# Altium footprint library shared_lib.PcbLib: 46 footprints (part 1 of 3)
Each footprint in its own frame and in the unit in brackets; x right, y up, seen from the top. Pads: shape width x height; smd on the part's side, far side on the other; paste and mask are expansions set on the pad; w line width, h text height; cw(c..) or ccw(c..) is an arc to the next point about the centre after c.
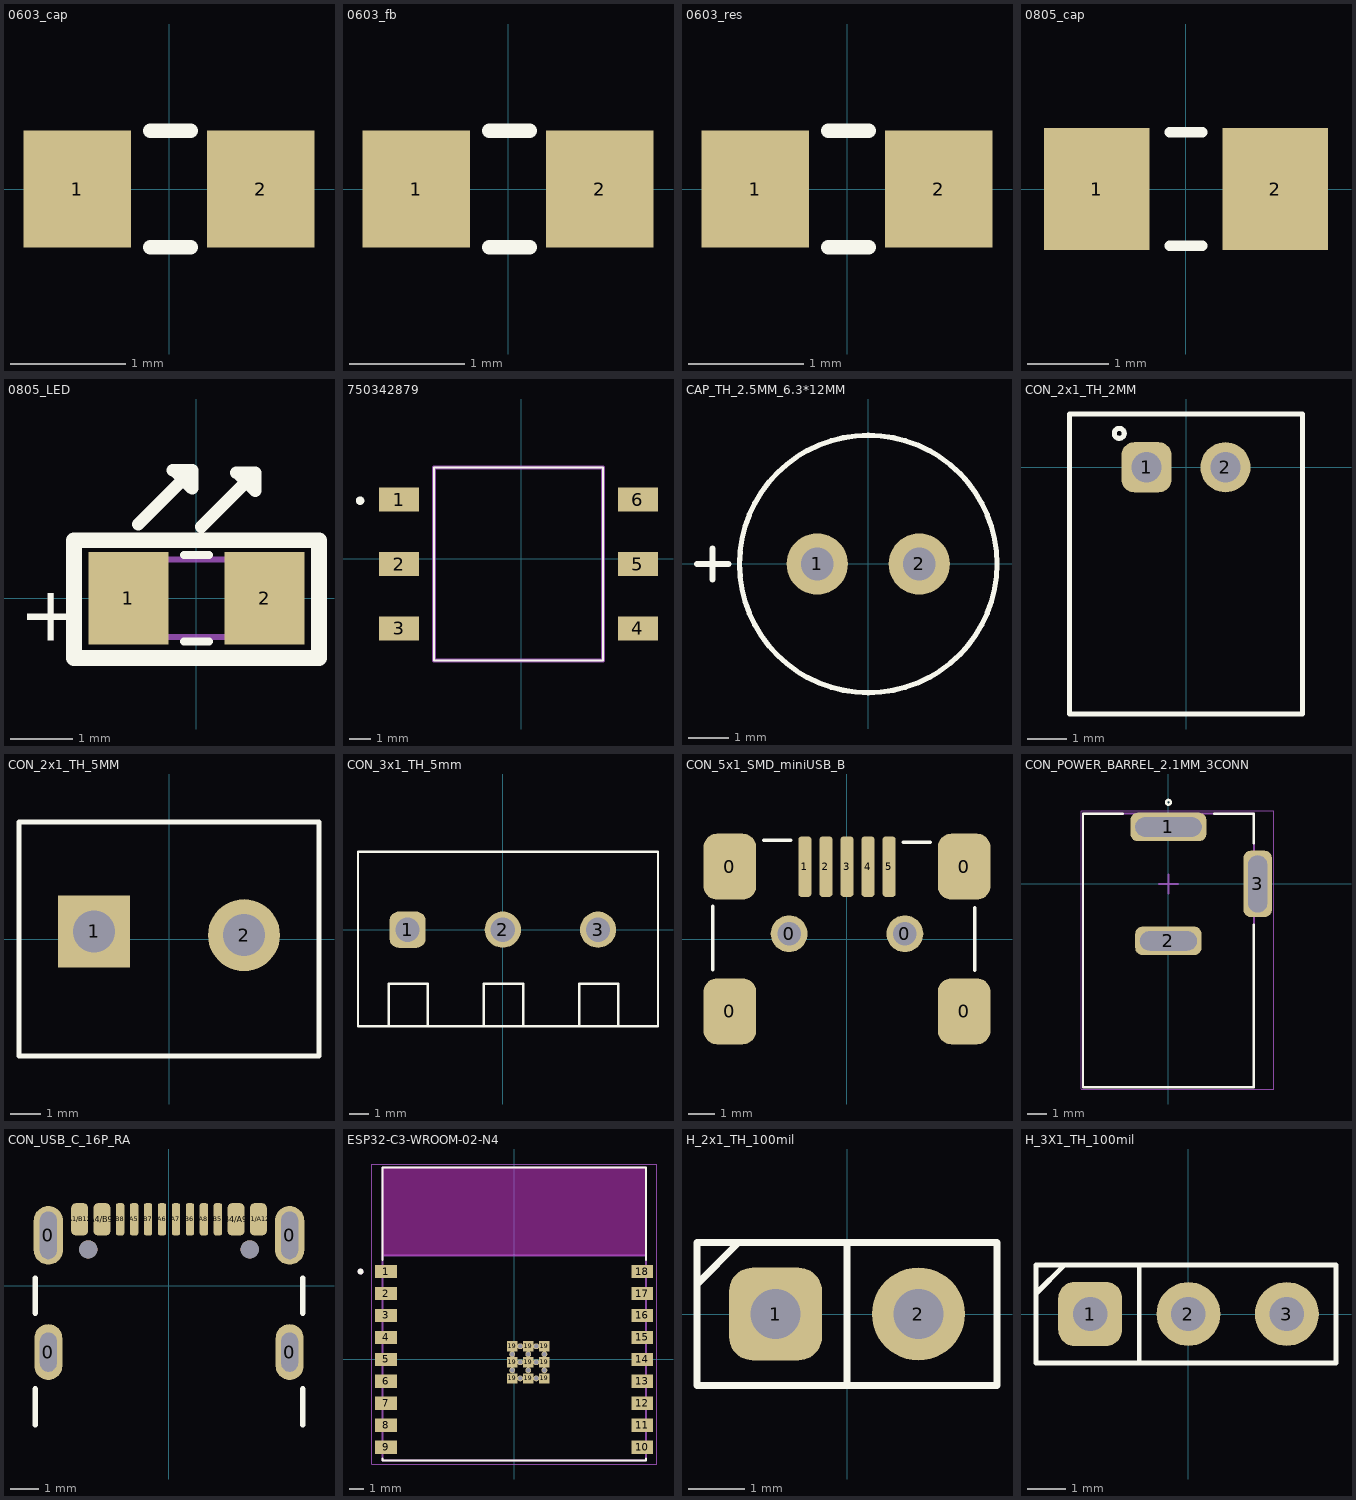
[diagram p0: the footprints below, top view; thin cyan lines are the x and y axes]

## 0603_cap [mil]
pads (2):
  rect 37x40 smd: 1(-31.5,0) 2(31.5,0)
Top Overlay:
  lines w5: -6.5,-20 7.5,-20 ; -6.5,20 7.5,20
3D body "CircuitWorks-CAPACITOR 0603.STEP": height 34.36, standoff 0.5, extent -31.5,-16.93 31.5,16.93

## 0603_fb [mil]
pads (2):
  rect 37x40 smd: 1(-31.5,0) 2(31.5,0)
Top Overlay:
  lines w5: -6.5,-20 7.5,-20 ; -6.5,20 7.5,20
3D body "742792602.stp": height 32, standoff 0.5, extent -31.5,-15.75 31.49,15.75

## 0603_res [mil] "1608 Metric / 20190225 / C-A.Serna.A"
pads (2):
  rect 37x40 smd: 1(-31.5,0) 2(31.5,0)
Top Overlay:
  lines w5: -6.5,-20 7.5,-20 ; -6.5,20 7.5,20
3D body "C0603.step": height 11.89, standoff 0, extent -31.5,-15.75 31.5,15.75

## 0805_cap [mm]
pads (2):
  rect 1.3x1.5 smd: 1(-1.1,0) 2(1.1,0)
Top Overlay:
  lines w0.127: -0.2,-0.7 0.2,-0.7 ; -0.2,0.7 0.2,0.7
3D body: height 1, standoff 0, extent -1.125,-0.7 1.075,0.7

## 0805_LED [mm]
pads (2):
  rect 1.3x1.5 smd: 1(-1.1,0) 2(1.1,0)
Top Overlay:
  lines w0.127: -0.2,-0.7 0.2,-0.7 ; -0.2,0.7 0.2,0.7
  lines w0.203: -0.941,1.197 -0.306,1.832 ; -0.38,2.072 -0.069,2.072 -0.069,1.775 -0.366,2.072 ; 0.079,1.157 0.714,1.792 ; 0.64,2.032 0.951,2.032 0.951,1.735 0.654,2.032
  lines w0.254: -1.981,-0.965 1.981,-0.965 1.981,0.94 -1.981,0.94 -1.981,-0.965
  text "+" at -2.87,-0.686 h0.89
Mechanical 1:
  lines w0.1: -0.7,-0.625 -0.7,0.625 ; 0.7,-0.625 0.7,0.625 ; -1,-0.625 1,-0.625 1,0.625 -1,0.625 -1,-0.625
3D body: height 1.1, standoff 0.5, extent -0.7,-0.625 0.7,0.625
3D body: height 0.5, standoff 0, extent -1,-0.625 1,0.625

## 750342879 [mm]
pads (6):
  rect 1.9x1.14 smd: 1(-5.782,2.796) 2(-5.782,-0.254) 3(-5.782,-3.304) 4(5.528,-3.304) 5(5.528,-0.254) 6(5.528,2.796)
Top Overlay:
  lines w0.1: -4.127,-4.824 3.873,-4.824 3.873,4.316 -4.127,4.316 -4.127,-4.824
  lines w0.2: -7.727,2.746 ccw(c-7.627,2.746) -7.527,2.746 ccw(c-7.627,2.746) -7.727,2.746
Mechanical 15:
  lines w0.2: -4.127,-4.824 3.873,-4.824 3.873,4.316 -4.127,4.316 -4.127,-4.824
3D body "750342879.stp": height 7.31, standoff 0, extent -6.127,-4.699 5.873,4.191

## CAP_TH_2.5MM_6.3*12MM [mm]
pads (2):
  round 1.5 hole 0.8: 1(-1.25,0) 2(1.25,0)
Top Overlay:
  circle w0.127: c0,0 r3.15
  lines w0.152: -4.191,0 -3.429,0 ; -3.81,-0.381 -3.81,0.381
3D body: height 12, standoff 0, extent -3.15,-3.15 3.15,3.15

## CON_2x1_TH_2MM [mm] "/20190307/N-A.Potosi"
pads (2):
  rrect50% 1.27x1.27 hole 0.762: 1(-1,0)
  round 1.27 hole 0.762: 2(1,0)
Top Overlay:
  circle w0.127: c-1.69,0.86 r0.127
  lines w0.127: -2.95,-6.25 2.95,-6.25 2.95,1.35 -2.95,1.35 -2.95,-6.25
3D body "S2B-PH-K-S(LF)(SN)--3DModel-STEP-56544.STEP": height 4.8, standoff -3.38, extent -2.96,-6.27 2.94,1.33

## CON_2x1_TH_5MM [mm]
pads (2):
  rect 2.4x2.4 hole 1.4: 1(-2.5,0.254)
  round 2.4 hole 1.4: 2(2.5,0.127)
Top Overlay:
  lines w0.152: -5,-3.9 5,-3.9 5,3.9 -5,3.9 -5,-3.9
3D body: height 10.2, standoff 0, extent -5,-3.9 5,3.9

## CON_3x1_TH_5mm [mm]
height 12
pads (3):
  rrect50% 1.9x1.9 hole 1.27: 1(-5,0)
  round 1.9 hole 1.27: 2(0,0) 3(5,0)
Top Overlay:
  lines w0.127: -5.99,-5.08 -5.99,-2.83 -3.93,-2.83 -3.93,-5.08 ; -0.99,-5.08 -0.99,-2.83 1.07,-2.83 1.07,-5.077 ; 4.01,-5.08 4.01,-2.83 6.07,-2.83 6.07,-5.08 ; -7.603,-5.08 -7.603,4.102 8.148,4.102 8.148,-5.08 -7.603,-5.08
3D body "pxc_1935174_03_PT-1-5-3-5-0-H_3D.stp": height 11.7, standoff -3.2, extent -7.507,-4.988 8.063,4.012

## CON_5x1_SMD_miniUSB_B [mm]
pads (11):
  rrect50% 2x2.5 smd: 0(-4.45,-2.75) 0(-4.45,2.75) 0(4.45,-2.75) 0(4.45,2.75)
  round 1.4 hole 0.889: 0(-2.2,0.2) 0(2.2,0.2)
  rrect50% 0.5x2.3 smd: 1(-1.6,2.75) 2(-0.8,2.75) 3(0,2.75) 4(0.8,2.75) 5(1.6,2.75)
Top Overlay:
  lines w0.127: -5.105,-1.172 -5.105,1.241 ; -3.175,3.756 -2.134,3.756 ; 2.134,3.68 3.175,3.68 ; 4.851,-1.197 4.851,1.191
3D body "usb_a-usb_b-m5-smd-c.stp": height 4, standoff -0.93, extent -5.102,-5.596 4.798,3.654

## CON_POWER_BARREL_2.1MM_3CONN [mm]
pads (3):
  rrect50% 4x1.5 hole 1.016 slot 3.5 at 0 deg: 1(0,3)
  rrect50% 3.5x1.5 hole 1.016 slot 3 at 0 deg: 2(0,-3)
  rrect50% 1.5x3.5 hole 1.016 slot 3 at 90 deg: 3(4.7,0)
Top Overlay:
  circle w0.127: c0,4.3 r0.125
  lines w0.127: -2.4,3.7 -4.5,3.7 -4.5,-10.7 4.5,-10.7 4.5,-2.15 ; 2.4,3.7 4.5,3.7 4.5,2.15
Mechanical 1:
  lines w0.1: -4.5,-10.7 -4.5,3.7 4.5,3.7 4.5,-10.7 -4.5,-10.7
Mechanical 15:
  lines w0.05: -4.6,-10.8 5.55,-10.8 5.55,3.85 -4.6,3.85 -4.6,-10.8
  lines w0.1: -0.5,0 0.5,0 ; 0,-0.5 0,0.5
3D body "pj-002a.stp": height 11, standoff -3.5, extent -4.5,-10.7 4.9,3.7

## CON_USB_C_16P_RA [mm]
pads (18):
  oval 1x2 hole 0.6 slot 1.4 at 90 deg: 0(-4.32,-2.377) 0(4.32,-2.377)
  oval 1.05x2.1 hole 0.6 slot 1.7 at 90 deg: 0(-4.32,1.803) 0(4.32,1.803)
  rrect50% 0.6x1.15 smd: A1/B12(-3.2,2.378) A4/B9(-2.4,2.378) B1/A12(3.2,2.378) B4/A9(2.4,2.378)
  rrect50% 0.3x1.15 smd: A5(-1.25,2.378) A6(-0.25,2.378) A7(0.25,2.378) A8(1.25,2.378) B5(1.75,2.378) B6(0.75,2.378) B7(-0.75,2.378) B8(-1.75,2.378)
  round 0.65 hole 0.65 unplated: ""(-2.89,1.303) ""(2.89,1.303)
Top Overlay:
  lines w0.2: -4.79,-4.977 -4.79,-3.697 ; -4.79,-0.977 -4.79,0.273 ; 4.79,-4.977 4.79,-3.697 ; 4.79,-0.977 4.79,0.273
3D body "step_temp.STEP": height 3.31, standoff -0.85, extent -4.79,-4.977 4.79,2.733

## ESP32-C3-WROOM-02-N4 [mm]
pads (39):
  rect 1.5x0.9 smd: 1(-8.75,6) 2(-8.75,4.5) 3(-8.75,3) 4(-8.75,1.5) 5(-8.75,0) 6(-8.75,-1.5) 7(-8.75,-3) 8(-8.75,-4.5) 9(-8.75,-6) 10(8.75,-6) 11(8.75,-4.5) 12(8.75,-3) 13(8.75,-1.5) 14(8.75,0) 15(8.75,1.5) 16(8.75,3) 17(8.75,4.5) 18(8.75,6)
  rect 0.7x0.7 smd: 19(-0.14,-1.3) 19(-0.14,-0.2) 19(-0.14,0.9) 19(0.96,-1.3) 19(0.96,-0.2) 19(0.96,0.9) 19(2.06,-1.3) 19(2.06,-0.2) 19(2.06,0.9)
  round 0.4 hole 0.3 mask+0: 19(-0.14,-0.75) 19(-0.14,0.35) 19(0.41,-1.3) 19(0.41,-0.2) 19(0.41,0.9) 19(0.96,-0.75) 19(0.96,0.35) 19(1.51,-1.3) 19(1.51,-0.2) 19(1.51,0.9) 19(2.06,-0.75) 19(2.06,0.35)
Top Overlay:
  circle w0.2: c-10.5,6 r0.1
  lines w0.127: -9,-6.77 -9,-6.9 9,-6.9 9,-6.77 ; -9,6.77 -9,13.1 9,13.1 9,6.77
Keep-Out Layer:
  region: 9,7.1 -9,7.1 -9,13.1 9,13.1
  region: 9,7.1 -9,7.1 -9,13.1 9,13.1
Mechanical 13:
  circle w0.2: c-10.5,6 r0.1
  lines w0.127: -9,7.1 -9,13.1 9,13.1 9,7.1 ; -9,7.1 -9,-6.9 9,-6.9 9,7.1 ; -9,7.1 9,7.1
Mechanical 15:
  lines w0.05: -9.75,-7.15 -9.75,13.35 9.75,13.35 9.75,-7.15 -9.75,-7.15
3D body "step_temp.STEP": height 3.35, standoff 0, extent -9,-6.9 9,13.1

## H_2x1_TH_100mil [mil]
pads (2):
  rrect50% 65x65 hole 35: 1(-50,0)
  round 65 hole 35: 2(50,0)
Top Overlay:
  lines w5: -105,20.87 -75.87,50 ; 0,-50 0,50 ; -105,-50 105,-50 105,50 -105,50 -105,-50
3D body "PH1-02-UA.STEP": height 338.58, standoff -116.14, extent -100.8,-49.16 99.48,49.26

## H_3X1_TH_100mil [mil]
pads (3):
  rrect50% 65x65 hole 35: 1(-100,0)
  round 65 hole 35: 2(0,0) 3(100,0)
Top Overlay:
  lines w5: -155,20.87 -125.87,50 ; -50,-50 -50,50 ; -155,-50 -155,50 150,50 150,-50 -155,-50
3D body "5-146278-3--3DModel-STEP-1.STEP": height 320.5, standoff -119.5, extent -142,-46 142,46